# Altium schematic symbol library PicoBlade 5POS VERT SMD.SchLib: 1 symbol
Pins are listed as number, name and electrical type; pins without a type are passive.

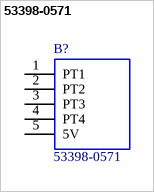
[diagram p0: symbol 53398-0571]

## 53398-0571
designator B?
Molex PICOBLADE Series, Series Number 53398, 1.25mm Pitch 5 Way 1 Row Straight PCB Header, Solder Termination, 1A; Geometry.Height: mm; Supplier_Name: RS; RS Part Number: 5427292; Manufacturer_Name: Molex; Manufacturer_Part_Number: 53398-0571; Allied_Number: *; Other Part Number: *; Datasheet Link: http://www.molex.com/pdm_docs/sd/533980571_sd.pdf; 3D Package: *
footprint 53398-0571
pins: 1 PT1, 2 PT2, 3 PT3, 4 PT4, 5 5V (power)